# Altium footprint library Arduino_Shield.PcbLib: 2 footprints
Each footprint in its own frame and in the unit in brackets; x right, y up, seen from the top. Pads: shape width x height; smd on the part's side, far side on the other; paste and mask are expansions set on the pad; w line width, h text height; cw(c..) or ccw(c..) is an arc to the next point about the centre after c.
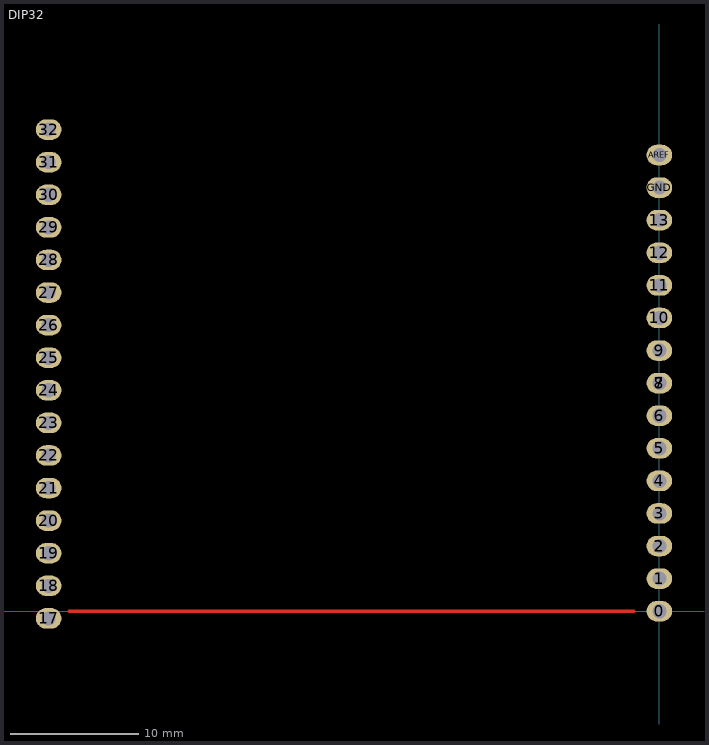
[diagram p0: the footprints below, top view; thin cyan lines are the x and y axes]

## DIP32 [mm]
pads (33):
  oval 2x1.6 hole 1.1: 0(0,0) 1(0,2.54) 2(0,5.08) 2(0,5.08) 3(0,7.62) 4(0,10.16) 5(0,12.7) 6(0,15.24) 7(0,17.78) 8(0,17.78) 9(0,20.32) 10(0,22.86) 11(0,25.4) 12(0,27.94) 13(0,30.48) 17(-47.6,-0.56) 18(-47.6,1.98) 19(-47.6,4.52) 20(-47.6,7.06) 21(-47.6,9.6) 22(-47.6,12.14) 23(-47.6,14.68) 24(-47.6,17.22) 25(-47.6,19.76) 26(-47.6,22.3) 27(-47.6,24.84) 28(-47.6,27.38) 29(-47.6,29.92) 30(-47.6,32.46) 31(-47.6,35) 32(-47.6,37.54) AREF(0,35.56) GND(0,33.02)
Top Layer:
  lines w0.254: -46,0 -2,0

## PCBComponent_1 [mm]